# EAGLE library part MAX232 (library TI)
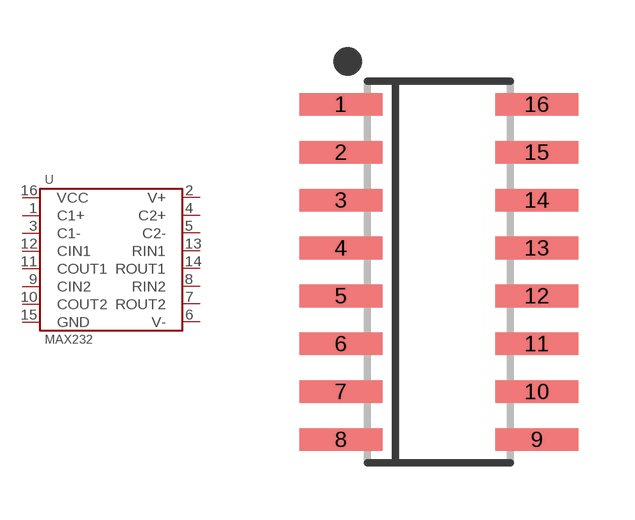
[diagram p0: symbol with the pads of SOIC-16; footprint SOIC-16]

Designator prefix U

## MAX232  [SOIC-16]
1  C1+
2  V+
3  C1-
4  C2+
5  C2-
6  V-
7  ROUT2
8  RIN2
9  CIN2
10  COUT2
11  COUT1
12  CIN1
13  RIN1
14  ROUT1
15  GND
16  VCC

## Footprint SOIC-16 (pad centres in mm)
smd 2.2 x 0.6: 1 -2.6,4.445; 2 -2.6,3.175; 3 -2.6,1.905; 4 -2.6,0.635; 5 -2.6,-0.635; 6 -2.6,-1.905; 7 -2.6,-3.175; 8 -2.6,-4.445; 9 2.6,-4.445; 10 2.6,-3.175; 11 2.6,-1.905; 12 2.6,-0.635; 13 2.6,0.635; 14 2.6,1.905; 15 2.6,3.175; 16 2.6,4.445